# Altium integrated library Infineon_Power_IGBT.IntLib: 226 symbols (part 7 of 8)
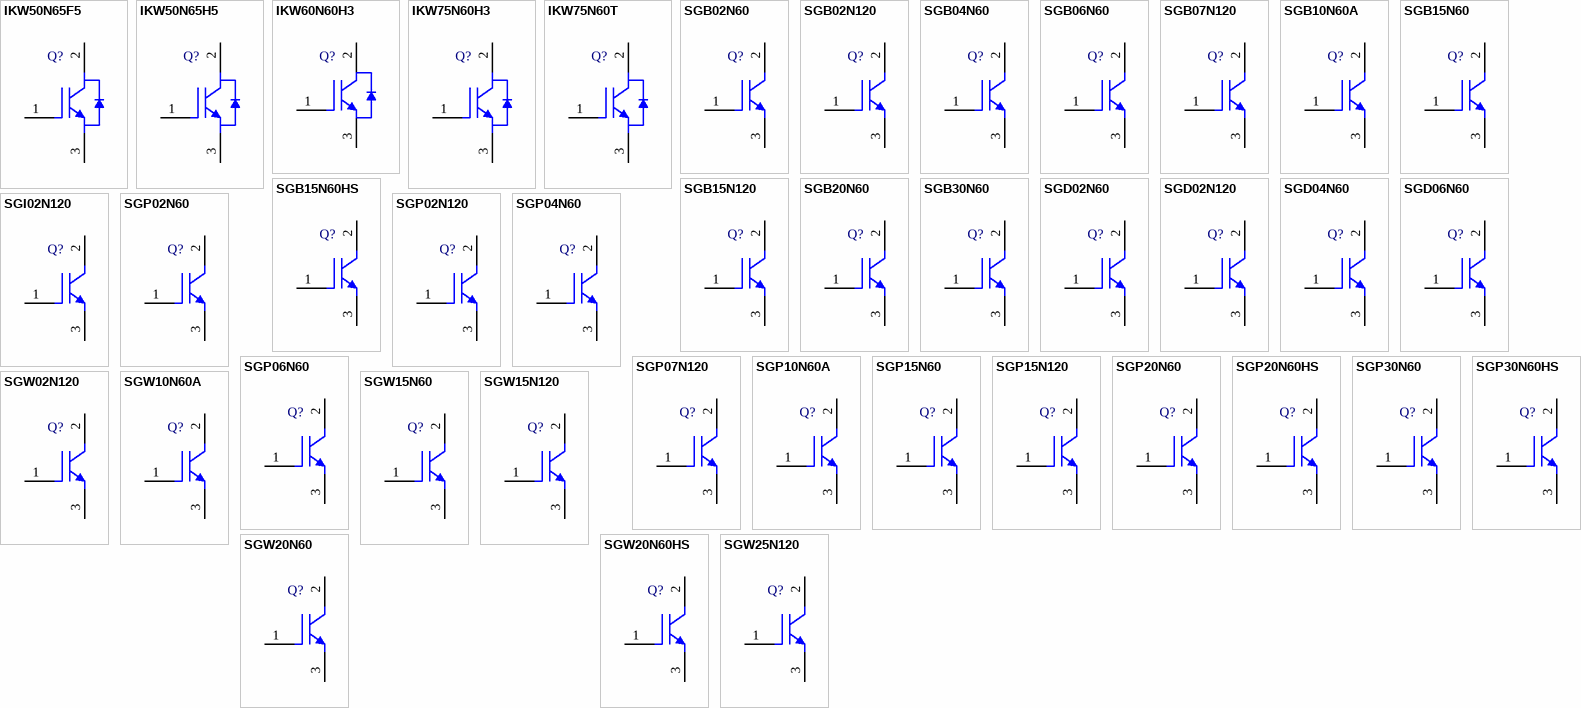
[diagram p11: symbols IKW50N65F5 to SGW25N120]

## SGP30N60HS
designator Q?
High Speed IGBT in NPT-Technology, PG-TO220-3-1, Tube, Green; Manufacturer: Infineon; PartNumber: SGP30N60HS; Green: TRUE; IC(max) @ 100 degC: 30 A; IC(max) @ 25 degC: 41 A; Switching Frequency: HighSpeed 30-100 kHz; VCE (max): 600 V; VCE(sat) (typ): 3.5 V; DatasheetVersion: Rev. 2.3; PackageVersion: Jul-12; PackageReference: PG-TO220-3-1; PackageDescription: 3-Pin Plastic (Green) Transistor Single Outline Package, 10 x 9.25 mm Body, 2.54 mm Pitch; Supplier 1: Mouser; Supplier Part Number 1: 726-SGP30N60HS; Supplier 2: Digi-Key; Supplier Part Number 2: SGP30N60HS-ND; Halogen-free: TRUE; Packing: Tube; Mounting Technology: Through Hole; ComponentLink1Description: Manufacturer URL; ComponentLink1URL: http://www.infineon.com/; ComponentLink2Description: Datasheet; ComponentLink2URL: http://www.infineon.com/dgdl/SGP_W30N60HS_Rev2_3G%5B1%5D.pdf?folderId=db3a3043156fd5730115f56849b61941&fileId=db3a304323b87bc20123b8f08ccf00c9; ComponentLink3Description: Package Specification; ComponentLink3URL: http://www.infineon.com/dgdl/BTS117_DS_14.pdf?folderId=db3a30431400ef68011421b54e2e0564&fileId=db3a30433a747525013abff8302d549c&location=en.Products.Automotive_ICs.Smart_High-_and_Low-Side_Switches.HITFET___TEMPFET__-_Smart_Low-Side_Switches.DATASHEET.BTS117_DS_14.pdf
footprint INF-PG-TO220-3-1 (FM, 3-Leads, Body 10x4.4mm, Pitch 2.54mm)
pins: 1 G, 2 C, 3 E

## SGW02N120
designator Q?
Fast IGBT in NPT-Technology, PG-TO-247-3-21, Tube; Manufacturer: Infineon; PartNumber: SGW02N120; Green: FALSE; IC(max) @ 100 degC: 2.8 A; IC(max) @ 25 degC: 6.2 A; Switching Frequency: Fast IGBT 10-40 kHz; VCE (max): 1,200 V; VCE(sat) (typ): 3.1 V; DatasheetVersion: Rev. 2.1; PackageVersion: Oct-07; PackageReference: PG-TO247-3-21; PackageDescription: 3-Pin Plastic (Green) Transistor Single Outline Package, 15.87 x 20.96 mm Body, 5.44 mm Pitch; Halogen-free: FALSE; Packing: Tube; Mounting Technology: Through Hole; ComponentLink1Description: Manufacturer URL; ComponentLink1URL: http://www.infineon.com/; ComponentLink2Description: Datasheet; ComponentLink2URL: http://www.infineon.com/dgdl/SGW02N120_Rev2G.pdf?folderId=db3a304412b407950112b408e8c90004&fileId=db3a304412b407950112b42831533d93; ComponentLink3Description: Package Specification; ComponentLink3URL: http://www.infineon.com/dgdl/DS_IK30N100T_1_1.pdf?folderId=db3a304412b407950112b408e8c90004&fileId=db3a304316f66ee80116f7b6e3920050&location=en.Products.IGBTs.IGBT_with_Anti-Parallel_Diode.TRENCHSTOP__IGBT_for_Hard_Switching.DATASHEET.DS_IK30N100T_1_1.pdf
footprint INF-PG-TO247-3-21 (FM, 3-Leads, Body 5.03x15.87mm, Pitch 5.44mm)
pins: 1 G, 2 C, 3 E

## SGW10N60A
designator Q?
Fast IGBT in NPT-Technology, PG-TO-247-3-44, Tube, Green; Manufacturer: Infineon; PartNumber: SGW10N60A; Green: TRUE; IC(max) @ 100 degC: 10.6 A; IC(max) @ 25 degC: 20 A; Switching Frequency: Fast IGBT 10-40 kHz; VCE (max): 600 V; VCE(sat) (typ): 2 V; DatasheetVersion: Rev. 2.5; PackageVersion: Rev. 05, 07/2010; PackageReference: PG-TO247-3-44_A; PackageDescription: 3-Pin Plastic (Green) Transistor Single Outline Package, Body 20.95 x 15.915 mm, Pitch 5.44 mm; Supplier 1: Mouser; Supplier Part Number 1: 726-SGW10N60A; Supplier 2: Digi-Key; Supplier Part Number 2: SGW10N60A-ND; Halogen-free: FALSE; Packing: Tube; Mounting Technology: Through Hole; ComponentLink1Description: Manufacturer URL; ComponentLink1URL: http://www.infineon.com/; ComponentLink2Description: Datasheet; ComponentLink2URL: http://www.infineon.com/dgdl/SGP_W10N60A_Rev2_5G.pdf?folderId=db3a304412b407950112b408e8c90004&fileId=db3a304412b407950112b42789993c5b; ComponentLink3Description: Package Specification; ComponentLink3URL: http://www.infineon.com/dgdl/IDW50E60_Rev+1.2.pdf?folderId=db3a304314dca38901151224afae0c96&fileId=db3a30433cd75ebf013cf1ddd0fb255a
footprint INF-PG-TO-247-3-44_A (FM, 3-Leads, Body 15.915x5.02mm, Pitch 5.44mm)
pins: 1 G, 2 C, 3 E

## SGW15N60
designator Q?
Fast IGBT in NPT-Technology, PG-TO-247-3, Tube, Green; Manufacturer: Infineon; PartNumber: SGW15N60; Green: TRUE; IC(max) @ 100 degC: 15 A; IC(max) @ 25 degC: 31 A; Switching Frequency: Fast IGBT 10-40 kHz; VCE (max): 600 V; VCE(sat) (typ): 2 V; DatasheetVersion: Rev. 2.3; PackageVersion: Rev. 03, 12/2007; PackageReference: PG-TO247-3; PackageDescription: 3-Pin Plastic (Green) Transistor Single Outline Package, 15.865 x 5.03 mm Body, 5.44 mm Pitch; Supplier 1: Mouser; Supplier Part Number 1: 726-SGW15N60; Supplier 2: Newark; Supplier Part Number 2: 47W3747; Supplier 3: Farnell; Supplier Part Number 3: 2212815; Supplier 4: Digi-Key; Supplier Part Number 4: SGW15N60-ND; Halogen-free: FALSE; Packing: Tube; Mounting Technology: Through Hole; ComponentLink1Description: Manufacturer URL; ComponentLink1URL: http://www.infineon.com/; ComponentLink2Description: Datasheet; ComponentLink2URL: http://www.infineon.com/dgdl/SGP_W15N60_Rev2_3G.pdf?folderId=db3a304412b407950112b408e8c90004&fileId=db3a304412b407950112b4278f2d3c66; ComponentLink3Description: Package Specification; ComponentLink3URL: http://www.infineon.com/dgdl/SKW30N60HS_Rev2_2G.pdf?folderId=db3a304412b407950112b408e8c90004&fileId=db3a304412b407950112b42862d43de6
footprint INF-PG-TO-247-3 (FM, 3-Leads, Body 15.865x5.03mm, Pitch 5.44mm)
pins: 1 G, 2 C, 3 E

## SGW15N120
designator Q?
Fast IGBT in NPT-Technology, PG-TO247-3-44, Tube, Green; Manufacturer: Infineon; PartNumber: SGW15N120; Green: TRUE; IC(max) @ 100 degC: 15 A; IC(max) @ 25 degC: 30 A; Switching Frequency: Fast IGBT 10-40 kHz; VCE (max): 1,200 V; VCE(sat) (typ): 3.1 V; DatasheetVersion: Rev. 2.6; PackageVersion: Rev. 05, 07/2010; PackageReference: PG-TO247-3-44_A; PackageDescription: 3-Pin Plastic (Green) Transistor Single Outline Package, Body 15.915 x 20.95 mm, Pitch 5.44 mm; Supplier 1: Mouser; Supplier Part Number 1: 726-SGW15N120; Supplier 2: Digi-Key; Supplier Part Number 2: SGW15N120-ND; Halogen-free: FALSE; Packing: Tube; Mounting Technology: Through Hole; ComponentLink1Description: Manufacturer URL; ComponentLink1URL: http://www.infineon.com/; ComponentLink2Description: Datasheet; ComponentLink2URL: http://www.infineon.com/dgdl/SGP_W15N120_Rev2_6.pdf?folderId=db3a304412b407950112b408e8c90004&fileId=db3a304412b407950112b427a19e3c82; ComponentLink3Description: Package Specification; ComponentLink3URL: http://www.infineon.com/dgdl/IDW10S120_Rev+2.pdf?folderId=db3a304314dca38901151224afae0c96&fileId=db3a304336724dc40136789691a04aa5
footprint INF-PG-TO247-3-44_A (FM, 3-Leads, Body 15.915x5.02mm, Pitch 5.44mm)
pins: 1 G, 2 C, 3 E

## SGW20N60
designator Q?
Fast IGBT in NPT-Technology, PG-TO-247-3-44, Tube, Green; Manufacturer: Infineon; PartNumber: SGW20N60; Green: TRUE; IC(max) @ 100 degC: 20 A; IC(max) @ 25 degC: 40 A; Switching Frequency: Fast IGBT 10-40 kHz; VCE (max): 600 V; VCE(sat) (typ): 2 V; DatasheetVersion: Rev. 2.4; PackageVersion: Rev. 05, 07/2010; PackageReference: PG-TO247-3-44_A; PackageDescription: 3-Pin Plastic (Green) Transistor Single Outline Package, Body 20.95 x 15.915 mm, Pitch 5.44 mm; Supplier 1: Mouser; Supplier Part Number 1: 726-SGW20N60; Supplier 2: Digi-Key; Supplier Part Number 2: SGW20N60-ND; Halogen-free: FALSE; Packing: Tube; Mounting Technology: Through Hole; ComponentLink1Description: Manufacturer URL; ComponentLink1URL: http://www.infineon.com/; ComponentLink2Description: Datasheet; ComponentLink2URL: http://www.infineon.com/dgdl/SGP_W20N60_Rev2_4G.pdf?folderId=db3a304412b407950112b408e8c90004&fileId=db3a304412b407950112b42791a53c6a; ComponentLink3Description: Package Specification; ComponentLink3URL: http://www.infineon.com/dgdl/IDW50E60_Rev+1.2.pdf?folderId=db3a304314dca38901151224afae0c96&fileId=db3a30433cd75ebf013cf1ddd0fb255a
footprint INF-PG-TO-247-3-44_A (FM, 3-Leads, Body 15.915x5.02mm, Pitch 5.44mm)
pins: 1 G, 2 C, 3 E

## SGW20N60HS
designator Q?
High Speed IGBT in NPT-Technology, PG-TO-247-3-44, Tube, Green; Manufacturer: Infineon; PartNumber: SGW20N60HS; Green: TRUE; IC(max) @ 100 degC: 20 A; IC(max) @ 25 degC: 36 A; Switching Frequency: HighSpeed 30-100 kHz; VCE (max): 600 V; VCE(sat) (typ): 2.8 V; DatasheetVersion: Rev. 2.5; PackageVersion: Rev. 05, 07/2010; PackageReference: PG-TO247-3-44_A; PackageDescription: 3-Pin Plastic (Green) Transistor Single Outline Package, Body 20.95 x 15.915 mm, Pitch 5.44 mm; Supplier 1: Mouser; Supplier Part Number 1: 726-SGW20N60HS; Supplier 2: Digi-Key; Supplier Part Number 2: SGW20N60HS-ND; Halogen-free: FALSE; Packing: Tube; Mounting Technology: Through Hole; ComponentLink1Description: Manufacturer URL; ComponentLink1URL: http://www.infineon.com/; ComponentLink2Description: Datasheet; ComponentLink2URL: http://www.infineon.com/dgdl/SGP_W20N60HS_Rev2_5G.pdf?folderId=db3a304412b407950112b408e8c90004&fileId=db3a304412b407950112b427b44d3ca4; ComponentLink3Description: Package Specification; ComponentLink3URL: http://www.infineon.com/dgdl/IDW50E60_Rev+1.2.pdf?folderId=db3a304314dca38901151224afae0c96&fileId=db3a30433cd75ebf013cf1ddd0fb255a
footprint INF-PG-TO-247-3-44_A (FM, 3-Leads, Body 15.915x5.02mm, Pitch 5.44mm)
pins: 1 G, 2 C, 3 E

## SGW25N120
designator Q?
Fast IGBT in NPT-Technology, PG-TO247-3-44, Tube, Green; Manufacturer: Infineon; PartNumber: SGW25N120; Green: TRUE; IC(max) @ 100 degC: 25 A; IC(max) @ 25 degC: 46 A; Switching Frequency: Fast IGBT 10-40 kHz; VCE (max): 1,200 V; VCE(sat) (typ): 3.1 V; DatasheetVersion: Rev. 2.5; PackageVersion: Rev. 05, 07/2010; PackageReference: PG-TO247-3-44_A; PackageDescription: 3-Pin Plastic (Green) Transistor Single Outline Package, Body 15.915 x 20.95 mm, Pitch 5.44 mm; Supplier 1: Mouser; Supplier Part Number 1: 726-SGW25N120; Supplier 2: Newark; Supplier Part Number 2: 47W3748; Supplier 3: Farnell; Supplier Part Number 3: 2212814; Supplier 4: Digi-Key; Supplier Part Number 4: SGW25N120-ND; Halogen-free: FALSE; Packing: Tube; Mounting Technology: Through Hole; ComponentLink1Description: Manufacturer URL; ComponentLink1URL: http://www.infineon.com/; ComponentLink2Description: Datasheet; ComponentLink2URL: http://www.infineon.com/dgdl/SGW25N120_Rev2_5G.pdf?folderId=db3a304412b407950112b408e8c90004&fileId=db3a304412b407950112b42837853d9e; ComponentLink3Description: Package Specification; ComponentLink3URL: http://www.infineon.com/dgdl/IDW10S120_Rev+2.pdf?folderId=db3a304314dca38901151224afae0c96&fileId=db3a304336724dc40136789691a04aa5
footprint INF-PG-TO247-3-44_A (FM, 3-Leads, Body 15.915x5.02mm, Pitch 5.44mm)
pins: 1 G, 2 C, 3 E

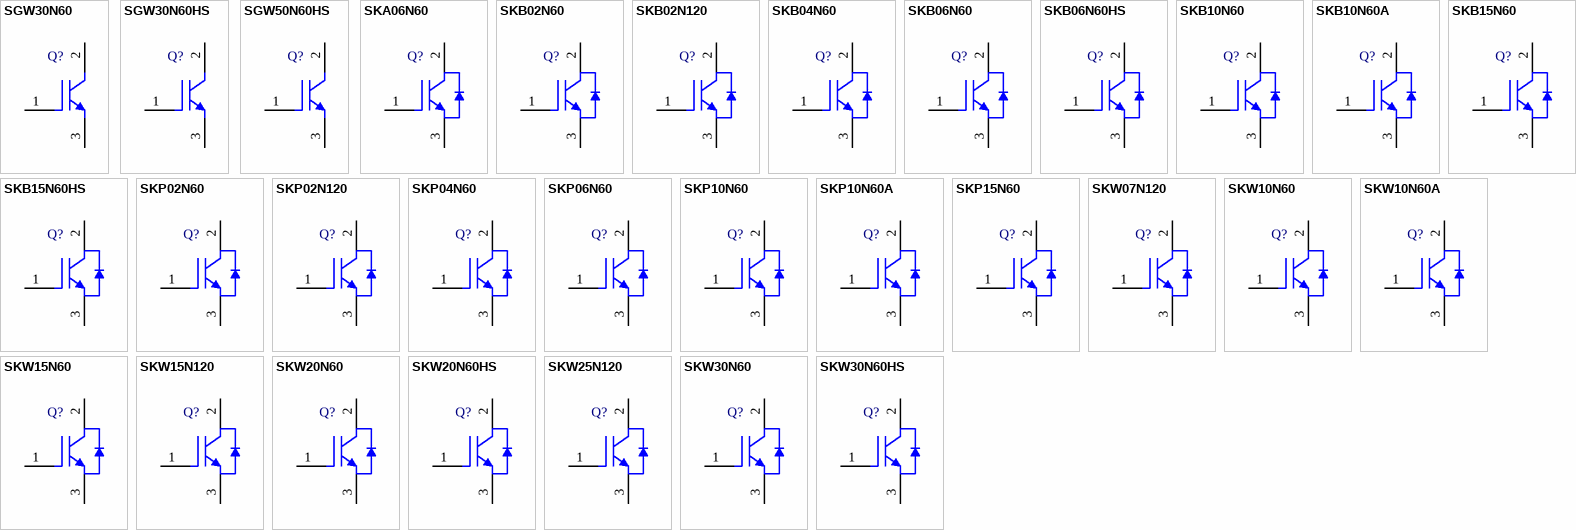
[diagram p5: symbols SGW30N60 to SKW30N60HS]

## SGW30N60
designator Q?
Fast IGBT in NPT-Technology, PG-TO-247-3-44, Tube, Green; Manufacturer: Infineon; PartNumber: SGW30N60; Green: TRUE; IC(max) @ 100 degC: 30 A; IC(max) @ 25 degC: 41 A; Switching Frequency: Fast IGBT 10-40 kHz; VCE (max): 600 V; VCE(sat) (typ): 2.1 V; DatasheetVersion: Rev. 2.5; PackageVersion: Rev. 05, 07/2010; PackageReference: PG-TO247-3-44_A; PackageDescription: 3-Pin Plastic (Green) Transistor Single Outline Package, Body 20.95 x 15.915 mm, Pitch 5.44 mm; Supplier 1: Mouser; Supplier Part Number 1: 726-SGW30N60; Supplier 2: Newark; Supplier Part Number 2: 24M7430; Supplier 3: Farnell; Supplier Part Number 3: 1056535; Supplier 4: Digi-Key; Supplier Part Number 4: SGW30N60-ND; Halogen-free: FALSE; Packing: Tube; Mounting Technology: Through Hole; ComponentLink1Description: Manufacturer URL; ComponentLink1URL: http://www.infineon.com/; ComponentLink2Description: Datasheet; ComponentLink2URL: http://www.infineon.com/dgdl/SGP_W30N60_Rev2_5G.pdf?folderId=db3a304412b407950112b408e8c90004&fileId=db3a304412b407950112b4282dff3d86; ComponentLink3Description: Package Specification; ComponentLink3URL: http://www.infineon.com/dgdl/IDW50E60_Rev+1.2.pdf?folderId=db3a304314dca38901151224afae0c96&fileId=db3a30433cd75ebf013cf1ddd0fb255a
footprint INF-PG-TO-247-3-44_A (FM, 3-Leads, Body 15.915x5.02mm, Pitch 5.44mm)
pins: 1 G, 2 C, 3 E

## SGW30N60HS
designator Q?
High Speed IGBT in NPT-Technology, PG-TO247-3-44, Tube, Green; Manufacturer: Infineon; PartNumber: SGW30N60HS; Green: TRUE; IC(max) @ 100 degC: 30 A; IC(max) @ 25 degC: 41 A; Switching Frequency: HighSpeed 30-100 kHz; VCE (max): 600 V; VCE(sat) (typ): 2.8 V; DatasheetVersion: Rev. 2.4; PackageVersion: Rev. 05, 07/2010; PackageReference: PG-TO247-3-44_A; PackageDescription: 3-Pin Plastic (Green) Transistor Single Outline Package, Body 15.915 x 20.95 mm, Pitch 5.44 mm; Supplier 1: Mouser; Supplier Part Number 1: 726-SGW30N60HS; Supplier 2: Newark; Supplier Part Number 2: 08N6634; Supplier 3: Farnell; Supplier Part Number 3: 1600271; Supplier 4: Digi-Key; Supplier Part Number 4: SGW30N60HS-ND; Halogen-free: FALSE; Packing: Tube; Mounting Technology: Through Hole; ComponentLink1Description: Manufacturer URL; ComponentLink1URL: http://www.infineon.com/; ComponentLink2Description: Datasheet; ComponentLink2URL: http://www.infineon.com/dgdl/SGP_W30N60HS_Rev2_4G.pdf?folderId=db3a304412b407950112b408e8c90004&fileId=db3a304412b407950112b427ac823c95; ComponentLink3Description: Package Specification; ComponentLink3URL: http://www.infineon.com/dgdl/IDW10S120_Rev+2.pdf?folderId=db3a304314dca38901151224afae0c96&fileId=db3a304336724dc40136789691a04aa5
footprint INF-PG-TO247-3-44_A (FM, 3-Leads, Body 15.915x5.02mm, Pitch 5.44mm)
pins: 1 G, 2 C, 3 E

## SGW50N60HS
designator Q?
High Speed IGBT in NPT-Technology, PG-TO247-3-44, Tube, Green; Manufacturer: Infineon; PartNumber: SGW50N60HS; Green: TRUE; IC(max) @ 100 degC: 50 A; IC(max) @ 25 degC: 100 A; Switching Frequency: HighSpeed 30-100 kHz; VCE (max): 600 V; VCE(sat) (typ): 2.8 V; DatasheetVersion: Rev. 2.3; PackageVersion: Rev. 05, 07/2010; PackageReference: PG-TO247-3-44_A; PackageDescription: 3-Pin Plastic (Green) Transistor Single Outline Package, Body 15.915 x 20.95 mm, Pitch 5.44 mm; Supplier 1: Mouser; Supplier Part Number 1: 726-SGW50N60HS; Supplier 2: Digi-Key; Supplier Part Number 2: SGW50N60HS-ND; Halogen-free: FALSE; Packing: Tube; Mounting Technology: Through Hole; ComponentLink1Description: Manufacturer URL; ComponentLink1URL: http://www.infineon.com/; ComponentLink2Description: Datasheet; ComponentLink2URL: http://www.infineon.com/dgdl/SGW50N60HS_Rev2_3G.pdf?folderId=db3a304412b407950112b408e8c90004&fileId=db3a304412b407950112b427b7d13cae; ComponentLink3Description: Package Specification; ComponentLink3URL: http://www.infineon.com/dgdl/IDW10S120_Rev+2.pdf?folderId=db3a304314dca38901151224afae0c96&fileId=db3a304336724dc40136789691a04aa5
footprint INF-PG-TO247-3-44_A (FM, 3-Leads, Body 15.915x5.02mm, Pitch 5.44mm)
pins: 1 G, 2 C, 3 E

## SKA06N60
designator Q?
Fast IGBT in NPT-Technology with Soft, Fast Recovery Anti-Parallel EmCon Diode, PG-TO-220-3-31, Tube, Green; Manufacturer: Infineon; PartNumber: SKA06N60; Green: TRUE; IC(max) @ 100 degC: 5 A; IC(max) @ 25 degC: 9 A; Switching Frequency: Fast IGBT 10-40 kHz; VCE (max): 600 V; VCE(sat) (typ): 2.3 V; DatasheetVersion: Rev. 2.3; PackageVersion: Jul-06; PackageReference: PG-TO-220-3-31; PackageDescription: 3-Pin Plastic (Green) Transistor Single Outline Package, 10.5 x 4.7 mm, 2.54 mm Pitch; Supplier 1: Mouser; Supplier Part Number 1: 726-SKA06N60; Supplier 2: Digi-Key; Supplier Part Number 2: SKA06N60-ND; Halogen-free: FALSE; Packing: Tube; Mounting Technology: Through Hole; ComponentLink1Description: Manufacturer URL; ComponentLink1URL: http://www.infineon.com/; ComponentLink2Description: Datasheet; ComponentLink2URL: http://www.infineon.com/dgdl/SKP_A06N60_Rev2_3G.pdf?folderId=db3a304412b407950112b408e8c90004&fileId=db3a304412b407950112b426b0df3a4b; ComponentLink3Description: Package Specification; ComponentLink3URL: http://www.infineon.com/dgdl/IKA03N120H2_Rev2_2G.pdf?folderId=db3a304412b407950112b408e8c90004&fileId=db3a304412b407950112b428518b3dcb
footprint INF-PG-TO-220-3-31 (FM, 3-Leads, Body 10.5x4.7mm, Pitch 2.54mm)
pins: 1 G, 2 C, 3 E

## SKB02N60
designator Q?
Fast IGBT in NPT-Technology with Soft, Fast Recovery Anti-Parallel EmCon Diode, PG-TO263-3-2, Reel, Green; Manufacturer: Infineon; PartNumber: SKB02N60; Green: TRUE; IC(max) @ 100 degC: 2.9 A; IC(max) @ 25 degC: 6 A; Switching Frequency: Fast IGBT 10-40 kHz; VCE (max): 600 V; VCE(sat) (typ): 2.2 V; DatasheetVersion: Rev. 2.2; PackageVersion: Rev. 01, 08/2007; PackageReference: PG-TO263-3-2; PackageDescription: 3-Pin Plastic (Green) Transistor Single Outline Package, 10.1 x 8.98 mm Body, 2.54 mm Pitch; Supplier 1: Mouser; Supplier Part Number 1: 726-SKB02N60; Supplier 2: Digi-Key; Supplier Part Number 2: SKB02N60-ND; Halogen-free: TRUE; Packing: Reel; Mounting Technology: Surface Mount; ComponentLink1Description: Manufacturer URL; ComponentLink1URL: http://www.infineon.com/; ComponentLink2Description: Datasheet; ComponentLink2URL: http://www.infineon.com/dgdl/SKB02N60_Rev2_2G.pdf?folderId=db3a304412b407950112b408e8c90004&fileId=db3a304412b407950112b426a6303a3b; ComponentLink3Description: Package Specification; ComponentLink3URL: http://www.infineon.com/dgdl/SPB80P06P+G_Rev+1.6_.pdf?folderId=db3a304412b407950112b408e8c90004&fileId=db3a304412b407950112b42add964408
footprint INF-PG-TO263-3-2_A_N (DPAK, 3-Leads, Body 10.1x8.98mm, Pitch 2.54mm, IPC Medium Density)
footprint INF-PG-TO263-3-2_A_L (DPAK, 3-Leads, Body 10.1x8.98mm, Pitch 2.54mm, IPC High Density)
footprint INF-PG-TO263-3-2_A_M (DPAK, 3-Leads, Body 10.1x8.98mm, Pitch 2.54mm, IPC Low Density)
pins: 1 G, 2 C, 3 E

## SKB02N120
designator Q?
Fast IGBT in NPT-Technology with Soft, Fast Recovery Anti-Parallel EmCon Diode, PG-TO263-3-2, Reel, Green; Manufacturer: Infineon; PartNumber: SKB02N120; Green: TRUE; IC(max) @ 100 degC: 2.8 A; IC(max) @ 25 degC: 6.2 A; Switching Frequency: Fast IGBT 10-40 kHz; VCE (max): 1,200 V; VCE(sat) (typ): 3.7 V; DatasheetVersion: Rev. 2.3; PackageVersion: Rev. 01, 08/2007; PackageReference: PG-TO263-3-2; PackageDescription: 3-Pin Plastic (Green) Transistor Single Outline Package, 10.1 x 8.98 mm Body, 2.54 mm Pitch; Supplier 1: Mouser; Supplier Part Number 1: 726-SKB02N120; Supplier 2: Digi-Key; Supplier Part Number 2: SKB02N120-ND; Halogen-free: TRUE; Packing: Reel; Mounting Technology: Surface Mount; ComponentLink1Description: Manufacturer URL; ComponentLink1URL: http://www.infineon.com/; ComponentLink2Description: Datasheet; ComponentLink2URL: http://www.infineon.com/dgdl/SKB02N120_Rev2_3G.pdf?folderId=db3a304412b407950112b408e8c90004&fileId=db3a304412b407950112b427f0fc3d22; ComponentLink3Description: Package Specification; ComponentLink3URL: http://www.infineon.com/dgdl/SPB80P06P+G_Rev+1.6_.pdf?folderId=db3a304412b407950112b408e8c90004&fileId=db3a304412b407950112b42add964408
footprint INF-PG-TO263-3-2_A_N (DPAK, 3-Leads, Body 10.1x8.98mm, Pitch 2.54mm, IPC Medium Density)
footprint INF-PG-TO263-3-2_A_L (DPAK, 3-Leads, Body 10.1x8.98mm, Pitch 2.54mm, IPC High Density)
footprint INF-PG-TO263-3-2_A_M (DPAK, 3-Leads, Body 10.1x8.98mm, Pitch 2.54mm, IPC Low Density)
pins: 1 G, 2 C, 3 E

## SKB04N60
designator Q?
Fast IGBT in NPT-Technology with Soft, Fast Recovery Anti-Parallel EmCon Diode, PG-TO263-3-2, Reel, Green; Manufacturer: Infineon; PartNumber: SKB04N60; Green: TRUE; IC(max) @ 100 degC: 4.9 A; IC(max) @ 25 degC: 9.4 A; Switching Frequency: Fast IGBT 10-40 kHz; VCE (max): 600 V; VCE(sat) (typ): 2.3 V; DatasheetVersion: Rev. 2.3; PackageVersion: Rev. 01, 08/2007; PackageReference: PG-TO263-3-2; PackageDescription: 3-Pin Plastic (Green) Transistor Single Outline Package, 10.1 x 8.98 mm Body, 2.54 mm Pitch; Supplier 1: Mouser; Supplier Part Number 1: 726-SKB04N60; Supplier 2: Digi-Key; Supplier Part Number 2: SKB04N60-ND; Halogen-free: TRUE; Packing: Reel; Mounting Technology: Surface Mount; ComponentLink1Description: Manufacturer URL; ComponentLink1URL: http://www.infineon.com/; ComponentLink2Description: Datasheet; ComponentLink2URL: http://www.infineon.com/dgdl/SKB04N60_Rev2_3G.pdf?folderId=db3a304412b407950112b408e8c90004&fileId=db3a304412b407950112b426ab9f3a43; ComponentLink3Description: Package Specification; ComponentLink3URL: http://www.infineon.com/dgdl/SPB80P06P+G_Rev+1.6_.pdf?folderId=db3a304412b407950112b408e8c90004&fileId=db3a304412b407950112b42add964408
footprint INF-PG-TO263-3-2_A_N (DPAK, 3-Leads, Body 10.1x8.98mm, Pitch 2.54mm, IPC Medium Density)
footprint INF-PG-TO263-3-2_A_L (DPAK, 3-Leads, Body 10.1x8.98mm, Pitch 2.54mm, IPC High Density)
footprint INF-PG-TO263-3-2_A_M (DPAK, 3-Leads, Body 10.1x8.98mm, Pitch 2.54mm, IPC Low Density)
pins: 1 G, 2 C, 3 E

## SKB06N60
designator Q?
Fast IGBT in NPT-Technology with Soft, Fast Recovery Anti-Parallel EmCon Diode, PG-TO263-3-2, Reel, Green; Manufacturer: Infineon; PartNumber: SKB06N60; Green: TRUE; IC(max) @ 100 degC: 6.9 A; IC(max) @ 25 degC: 12 A; Switching Frequency: Fast IGBT 10-40 kHz; VCE (max): 600 V; VCE(sat) (typ): 2.3 V; DatasheetVersion: Rev. 2.2; PackageVersion: Rev. 01, 08/2007; PackageReference: PG-TO263-3-2; PackageDescription: 3-Pin Plastic (Green) Transistor Single Outline Package, 10.1 x 8.98 mm Body, 2.54 mm Pitch; Supplier 1: Mouser; Supplier Part Number 1: 726-SKB06N60; Supplier 2: Digi-Key; Supplier Part Number 2: SKB06N60-ND; Halogen-free: TRUE; Packing: Reel; Mounting Technology: Surface Mount; ComponentLink1Description: Manufacturer URL; ComponentLink1URL: http://www.infineon.com/; ComponentLink2Description: Datasheet; ComponentLink2URL: http://www.infineon.com/dgdl/SKB06N60_Rev2_2G.pdf?folderId=db3a304412b407950112b408e8c90004&fileId=db3a304412b407950112b427ff693d36; ComponentLink3Description: Package Specification; ComponentLink3URL: http://www.infineon.com/dgdl/SPB80P06P+G_Rev+1.6_.pdf?folderId=db3a304412b407950112b408e8c90004&fileId=db3a304412b407950112b42add964408
footprint INF-PG-TO263-3-2_A_N (DPAK, 3-Leads, Body 10.1x8.98mm, Pitch 2.54mm, IPC Medium Density)
footprint INF-PG-TO263-3-2_A_L (DPAK, 3-Leads, Body 10.1x8.98mm, Pitch 2.54mm, IPC High Density)
footprint INF-PG-TO263-3-2_A_M (DPAK, 3-Leads, Body 10.1x8.98mm, Pitch 2.54mm, IPC Low Density)
pins: 1 G, 2 C, 3 E

## SKB06N60HS
designator Q?
High Speed IGBT in NPT-Technology, PG-TO263-3-2, Reel, Green; Manufacturer: Infineon; PartNumber: SKB06N60HS; Green: TRUE; IC(max) @ 100 degC: 6 A; IC(max) @ 25 degC: 12 A; Switching Frequency: HighSpeed 30-100 kHz; VCE (max): 600 V; VCE(sat) (typ): 3.5 V; DatasheetVersion: Rev. 2.3; PackageVersion: Rev. 01, 08/2007; PackageReference: PG-TO263-3-2; PackageDescription: 3-Pin Plastic (Green) Transistor Single Outline Package, 10.1 x 8.98 mm Body, 2.54 mm Pitch; Supplier 1: Mouser; Supplier Part Number 1: 726-SKB06N60HS; Supplier 2: Digi-Key; Supplier Part Number 2: SKB06N60HS-ND; Halogen-free: TRUE; Packing: Reel; Mounting Technology: Surface Mount; ComponentLink1Description: Manufacturer URL; ComponentLink1URL: http://www.infineon.com/; ComponentLink2Description: Datasheet; ComponentLink2URL: http://www.infineon.com/dgdl/SKB06N60HS_Rev2_3G.pdf?folderId=db3a304412b407950112b408e8c90004&fileId=db3a304412b407950112b4285a013dda; ComponentLink3Description: Package Specification; ComponentLink3URL: http://www.infineon.com/dgdl/SPB80P06P+G_Rev+1.6_.pdf?folderId=db3a304412b407950112b408e8c90004&fileId=db3a304412b407950112b42add964408
footprint INF-PG-TO263-3-2_A_N (DPAK, 3-Leads, Body 10.1x8.98mm, Pitch 2.54mm, IPC Medium Density)
footprint INF-PG-TO263-3-2_A_L (DPAK, 3-Leads, Body 10.1x8.98mm, Pitch 2.54mm, IPC High Density)
footprint INF-PG-TO263-3-2_A_M (DPAK, 3-Leads, Body 10.1x8.98mm, Pitch 2.54mm, IPC Low Density)
pins: 1 G, 2 C, 3 E

## SKB10N60
designator Q?
Fast S-IGBT in NPT-Technology with Soft, Fast Recovery Anti-Parallel EmCon Diode, PG-TO-263AB, Reel; Manufacturer: Infineon; PartNumber: SKB10N60; Green: FALSE; IC(max) @ 100 degC: 10.9 A; IC(max) @ 25 degC: 21 A; Switching Frequency: Fast IGBT 10-40 kHz; VCE (max): 600 V; VCE(sat) (typ): 2 V; DatasheetVersion: Rev. 2.0; PackageVersion: Sep-08; PackageReference: PG-TO-263AB; PackageDescription: 3-Pin Plastic (Green) Transistor Single Outline Package, 10 x 9.25 mm Body, 2.54 mm Pitch; Supplier 1: Mouser; Supplier Part Number 1: 726-SKB10N60; Halogen-free: FALSE; Packing: Reel; Mounting Technology: Surface Mount; ComponentLink1Description: Manufacturer URL; ComponentLink1URL: http://www.infineon.com/; ComponentLink2Description: Datasheet; ComponentLink2URL: http://www.infineon.com/dgdl/SKP_B_W10N60_Rev_2_0.pdf?folderId=db3a3043156fd5730115f56849b61941&fileId=db3a30433afc7e3e013b4148150b7840; ComponentLink3Description: Package Specification; ComponentLink3URL: http://www.infineon.com/dgdl/SKP_B_W10N60_Rev_2_0.pdf?folderId=db3a3043156fd5730115f56849b61941&fileId=db3a30433afc7e3e013b4148150b7840
footprint INF-PG-TO-263AB_V (DPAK, 3-Leads, Pitch 2.54mm)
pins: 1 G, 2 C, 3 E

## SKB10N60A
designator Q?
Fast IGBT in NPT-Technology with Soft, Fast Recovery Anti-Parallel EmCon Diode, PG-TO263-3-2, Reel, Green; Manufacturer: Infineon; PartNumber: SKB10N60A; Green: TRUE; IC(max) @ 100 degC: 10.6 A; IC(max) @ 25 degC: 20 A; Switching Frequency: Fast IGBT 10-40 kHz; VCE (max): 600 V; VCE(sat) (typ): 2.3 V; DatasheetVersion: Rev. 2.2; PackageVersion: Rev. 01, 08/2007; PackageReference: PG-TO263-3-2; PackageDescription: 3-Pin Plastic (Green) Transistor Single Outline Package, 10.1 x 8.98 mm Body, 2.54 mm Pitch; Supplier 1: Mouser; Supplier Part Number 1: 726-SKB10N60A; Supplier 2: Digi-Key; Supplier Part Number 2: SKB10N60A-ND; Halogen-free: TRUE; Packing: Reel; Mounting Technology: Surface Mount; ComponentLink1Description: Manufacturer URL; ComponentLink1URL: http://www.infineon.com/; ComponentLink2Description: Datasheet; ComponentLink2URL: http://www.infineon.com/dgdl/SKB10N60A_Rev2_2G.pdf?folderId=db3a304412b407950112b408e8c90004&fileId=db3a304412b407950112b427df013d04; ComponentLink3Description: Package Specification; ComponentLink3URL: http://www.infineon.com/dgdl/SPB80P06P+G_Rev+1.6_.pdf?folderId=db3a304412b407950112b408e8c90004&fileId=db3a304412b407950112b42add964408
footprint INF-PG-TO263-3-2_A_N (DPAK, 3-Leads, Body 10.1x8.98mm, Pitch 2.54mm, IPC Medium Density)
footprint INF-PG-TO263-3-2_A_L (DPAK, 3-Leads, Body 10.1x8.98mm, Pitch 2.54mm, IPC High Density)
footprint INF-PG-TO263-3-2_A_M (DPAK, 3-Leads, Body 10.1x8.98mm, Pitch 2.54mm, IPC Low Density)
pins: 1 G, 2 C, 3 E

## SKB15N60
designator Q?
Fast IGBT in NPT-Technology with Soft, Fast Recovery Anti-Parallel EmCon Diode, PG-TO263-3-2, Reel, Green; Manufacturer: Infineon; PartNumber: SKB15N60; Green: TRUE; IC(max) @ 100 degC: 15 A; IC(max) @ 25 degC: 31 A; Switching Frequency: Fast IGBT 10-40 kHz; VCE (max): 600 V; VCE(sat) (typ): 2.3 V; DatasheetVersion: Rev. 2.2; PackageVersion: Rev. 01, 08/2007; PackageReference: PG-TO263-3-2; PackageDescription: 3-Pin Plastic (Green) Transistor Single Outline Package, 10.1 x 8.98 mm Body, 2.54 mm Pitch; Supplier 1: Mouser; Supplier Part Number 1: 726-SKB15N60; Supplier 2: Digi-Key; Supplier Part Number 2: SKB15N60-ND; Halogen-free: TRUE; Packing: Reel; Mounting Technology: Surface Mount; ComponentLink1Description: Manufacturer URL; ComponentLink1URL: http://www.infineon.com/; ComponentLink2Description: Datasheet; ComponentLink2URL: http://www.infineon.com/dgdl/SKB15N60_Rev2_2G.pdf?folderId=db3a304412b407950112b408e8c90004&fileId=db3a304412b407950112b427e5073d0f; ComponentLink3Description: Package Specification; ComponentLink3URL: http://www.infineon.com/dgdl/SPB80P06P+G_Rev+1.6_.pdf?folderId=db3a304412b407950112b408e8c90004&fileId=db3a304412b407950112b42add964408
footprint INF-PG-TO263-3-2_A_N (DPAK, 3-Leads, Body 10.1x8.98mm, Pitch 2.54mm, IPC Medium Density)
footprint INF-PG-TO263-3-2_A_L (DPAK, 3-Leads, Body 10.1x8.98mm, Pitch 2.54mm, IPC High Density)
footprint INF-PG-TO263-3-2_A_M (DPAK, 3-Leads, Body 10.1x8.98mm, Pitch 2.54mm, IPC Low Density)
pins: 1 G, 2 C, 3 E

## SKB15N60HS
designator Q?
High Speed IGBT in NPT-Technology, PG-TO263-3-2, Reel, Green; Manufacturer: Infineon; PartNumber: SKB15N60HS; Green: TRUE; IC(max) @ 100 degC: 15 A; IC(max) @ 25 degC: 27 A; Switching Frequency: Fast IGBT 10-40 kHz; VCE (max): 600 V; VCE(sat) (typ): 3.5 V; DatasheetVersion: Rev. 2.3; PackageVersion: Rev. 01, 08/2007; PackageReference: PG-TO263-3-2; PackageDescription: 3-Pin Plastic (Green) Transistor Single Outline Package, 10.1 x 8.98 mm Body, 2.54 mm Pitch; Supplier 1: Mouser; Supplier Part Number 1: 726-SKB15N60HS; Supplier 2: Digi-Key; Supplier Part Number 2: SKB15N60HS-ND; Halogen-free: TRUE; Packing: Reel; Mounting Technology: Surface Mount; ComponentLink1Description: Manufacturer URL; ComponentLink1URL: http://www.infineon.com/; ComponentLink2Description: Datasheet; ComponentLink2URL: http://www.infineon.com/dgdl/SKB15N60HS_Rev2_3G.pdf?folderId=db3a304412b407950112b408e8c90004&fileId=db3a304412b407950112b4285ce33dde; ComponentLink3Description: Package Specification; ComponentLink3URL: http://www.infineon.com/dgdl/SPB80P06P+G_Rev+1.6_.pdf?folderId=db3a304412b407950112b408e8c90004&fileId=db3a304412b407950112b42add964408
footprint INF-PG-TO263-3-2_A_N (DPAK, 3-Leads, Body 10.1x8.98mm, Pitch 2.54mm, IPC Medium Density)
footprint INF-PG-TO263-3-2_A_L (DPAK, 3-Leads, Body 10.1x8.98mm, Pitch 2.54mm, IPC High Density)
footprint INF-PG-TO263-3-2_A_M (DPAK, 3-Leads, Body 10.1x8.98mm, Pitch 2.54mm, IPC Low Density)
pins: 1 G, 2 C, 3 E

## SKP02N60
designator Q?
Fast IGBT in NPT-Technology with Soft, Fast Recovery Anti-Parallel EmCon Diode, PG-TO220-3-1, Tube, Green; Manufacturer: Infineon; PartNumber: SKP02N60; Green: TRUE; IC(max) @ 100 degC: 2.9 A; IC(max) @ 25 degC: 6 A; Switching Frequency: Fast IGBT 10-40 kHz; VCE (max): 600 V; VCE(sat) (typ): 2.2 V; DatasheetVersion: Rev. 2.2; PackageVersion: Jul-12; PackageReference: PG-TO220-3-1; PackageDescription: 3-Pin Plastic (Green) Transistor Single Outline Package, 10 x 9.25 mm Body, 2.54 mm Pitch; Supplier 1: Mouser; Supplier Part Number 1: 726-SKP02N60; Supplier 2: Digi-Key; Supplier Part Number 2: SKP02N60-ND; Halogen-free: TRUE; Packing: Tube; Mounting Technology: Through Hole; ComponentLink1Description: Manufacturer URL; ComponentLink1URL: http://www.infineon.com/; ComponentLink2Description: Datasheet; ComponentLink2URL: http://www.infineon.com/dgdl/SKP02N60_Rev2_2G%5B1%5D.pdf?folderId=db3a3043156fd5730115f56849b61941&fileId=db3a304323b87bc20123bd282ebf35d6; ComponentLink3Description: Package Specification; ComponentLink3URL: http://www.infineon.com/dgdl/BTS117_DS_14.pdf?folderId=db3a30431400ef68011421b54e2e0564&fileId=db3a30433a747525013abff8302d549c&location=en.Products.Automotive_ICs.Smart_High-_and_Low-Side_Switches.HITFET___TEMPFET__-_Smart_Low-Side_Switches.DATASHEET.BTS117_DS_14.pdf
footprint INF-PG-TO220-3-1 (FM, 3-Leads, Body 10x4.4mm, Pitch 2.54mm)
pins: 1 G, 2 C, 3 E

## SKP02N120
designator Q?
Fast IGBT in NPT-Technology with Soft, Fast Recovery Anti-Parallel EmCon Diode, PG-TO220-3-1, Tube, Green; Manufacturer: Infineon; PartNumber: SKP02N120; Green: TRUE; IC(max) @ 100 degC: 2.8 A; IC(max) @ 25 degC: 6.2 A; Switching Frequency: Fast IGBT 10-40 kHz; VCE (max): 1,200 V; VCE(sat) (typ): 3.7 V; DatasheetVersion: Rev. 2.2; PackageVersion: Jul-12; PackageReference: PG-TO220-3-1; PackageDescription: 3-Pin Plastic (Green) Transistor Single Outline Package, 10 x 9.25 mm Body, 2.54 mm Pitch; Supplier 1: Mouser; Supplier Part Number 1: 726-SKP02N120; Supplier 2: Digi-Key; Supplier Part Number 2: SKP02N120-ND; Halogen-free: TRUE; Packing: Tube; Mounting Technology: Through Hole; ComponentLink1Description: Manufacturer URL; ComponentLink1URL: http://www.infineon.com/; ComponentLink2Description: Datasheet; ComponentLink2URL: http://www.infineon.com/dgdl/SKP02N120_Rev2G_2%5B1%5D.pdf?folderId=db3a3043156fd5730115f56849b61941&fileId=db3a304323b87bc20123bda4717636a5; ComponentLink3Description: Package Specification; ComponentLink3URL: http://www.infineon.com/dgdl/BTS117_DS_14.pdf?folderId=db3a30431400ef68011421b54e2e0564&fileId=db3a30433a747525013abff8302d549c&location=en.Products.Automotive_ICs.Smart_High-_and_Low-Side_Switches.HITFET___TEMPFET__-_Smart_Low-Side_Switches.DATASHEET.BTS117_DS_14.pdf
footprint INF-PG-TO220-3-1 (FM, 3-Leads, Body 10x4.4mm, Pitch 2.54mm)
pins: 1 G, 2 C, 3 E

## SKP04N60
designator Q?
Fast IGBT in NPT-Technology with Soft, Fast Recovery Anti-Parallel EmCon Diode, PG-TO220-3-1, Tube, Green; Manufacturer: Infineon; PartNumber: SKP04N60; Green: TRUE; IC(max) @ 100 degC: 4.9 A; IC(max) @ 25 degC: 9.4 A; Switching Frequency: Fast IGBT 10-40 kHz; VCE (max): 600 V; VCE(sat) (typ): 2.3 V; DatasheetVersion: Rev. 2.2; PackageVersion: Jul-12; PackageReference: PG-TO220-3-1; PackageDescription: 3-Pin Plastic (Green) Transistor Single Outline Package, 10 x 9.25 mm Body, 2.54 mm Pitch; Supplier 1: Mouser; Supplier Part Number 1: 726-SKP04N60; Supplier 2: Digi-Key; Supplier Part Number 2: SKP04N60-ND; Halogen-free: TRUE; Packing: Tube; Mounting Technology: Through Hole; ComponentLink1Description: Manufacturer URL; ComponentLink1URL: http://www.infineon.com/; ComponentLink2Description: Datasheet; ComponentLink2URL: http://www.infineon.com/dgdl/SKP04N60_Rev2_2G%5B1%5D.pdf?folderId=db3a3043156fd5730115f56849b61941&fileId=db3a304323b87bc20123bd39d8ac35f4; ComponentLink3Description: Package Specification; ComponentLink3URL: http://www.infineon.com/dgdl/BTS117_DS_14.pdf?folderId=db3a30431400ef68011421b54e2e0564&fileId=db3a30433a747525013abff8302d549c&location=en.Products.Automotive_ICs.Smart_High-_and_Low-Side_Switches.HITFET___TEMPFET__-_Smart_Low-Side_Switches.DATASHEET.BTS117_DS_14.pdf
footprint INF-PG-TO220-3-1 (FM, 3-Leads, Body 10x4.4mm, Pitch 2.54mm)
pins: 1 G, 2 C, 3 E

## SKP06N60
designator Q?
Fast IGBT in NPT-Technology with Soft, Fast Recovery Anti-Parallel EmCon Diode, PG-TO220-3-1, Tube, Green; Manufacturer: Infineon; PartNumber: SKP06N60; Green: TRUE; IC(max) @ 100 degC: 6.9 A; IC(max) @ 25 degC: 12 A; Switching Frequency: Fast IGBT 10-40 kHz; VCE (max): 600 V; VCE(sat) (typ): 2.3 V; DatasheetVersion: Rev. 2.3; PackageVersion: Jul-12; PackageReference: PG-TO220-3-1; PackageDescription: 3-Pin Plastic (Green) Transistor Single Outline Package, 10 x 9.25 mm Body, 2.54 mm Pitch; Supplier 1: Mouser; Supplier Part Number 1: 726-SKP06N60; Supplier 2: Digi-Key; Supplier Part Number 2: SKP06N60-ND; Halogen-free: TRUE; Packing: Tube; Mounting Technology: Through Hole; ComponentLink1Description: Manufacturer URL; ComponentLink1URL: http://www.infineon.com/; ComponentLink2Description: Datasheet; ComponentLink2URL: http://www.infineon.com/dgdl/SKP_A06N60_Rev2_3G%5B1%5D.pdf?folderId=db3a3043156fd5730115f56849b61941&fileId=db3a304323b87bc20123bd431003360e; ComponentLink3Description: Package Specification; ComponentLink3URL: http://www.infineon.com/dgdl/BTS117_DS_14.pdf?folderId=db3a30431400ef68011421b54e2e0564&fileId=db3a30433a747525013abff8302d549c&location=en.Products.Automotive_ICs.Smart_High-_and_Low-Side_Switches.HITFET___TEMPFET__-_Smart_Low-Side_Switches.DATASHEET.BTS117_DS_14.pdf
footprint INF-PG-TO220-3-1 (FM, 3-Leads, Body 10x4.4mm, Pitch 2.54mm)
pins: 1 G, 2 C, 3 E

## SKP10N60
designator Q?
Fast S-IGBT in NPT-Technology with Soft, Fast Recovery Anti-Parallel EmCon Diode, PG-TO-220AB, Tube, Green; Manufacturer: Infineon; PartNumber: SKP10N60; Green: TRUE; IC(max) @ 100 degC: 10.9 A; IC(max) @ 25 degC: 21 A; Switching Frequency: Fast IGBT 10-40 kHz; VCE (max): 600 V; VCE(sat) (typ): 2.2 V; DatasheetVersion: Rev. 2.0; PackageVersion: Feb-04; PackageReference: PG-TO-220AB; PackageDescription: 3-Pin Plastic (Green) Transistor Single Outline Package, 9.9 x 9.2 mm Body, 2.54 mm Pitch; Halogen-free: FALSE; Packing: Tube; Mounting Technology: Through Hole; ComponentLink1Description: Manufacturer URL; ComponentLink1URL: http://www.infineon.com/; ComponentLink2Description: Datasheet; ComponentLink2URL: http://www.infineon.com/dgdl/SKP_B_W10N60_Rev_2_0.pdf?folderId=db3a3043156fd5730115f56849b61941&fileId=db3a30433afc7e3e013b4148150b7840; ComponentLink3Description: Package Specification; ComponentLink3URL: http://www.infineon.com/dgdl/bts110.pdf?folderId=db3a304412b407950112b43583c16310&fileId=db3a304412b407950112b43584326311&sId=db3a30443e3c704d013e4eb6657a2604
footprint INF-PG-TO-220AB (FM, 3-Leads, Body 9.9x4.4mm, Pitch 2.54mm)
pins: 1 G, 2 C, 3 E

## SKP10N60A
designator Q?
Fast IGBT in NPT-Technology with Soft, Fast Recovery Anti-Parallel EmCon Diode, PG-TO220-3-1, Tube, Green; Manufacturer: Infineon; PartNumber: SKP10N60A; Green: TRUE; IC(max) @ 100 degC: 10.6 A; IC(max) @ 25 degC: 20 A; Switching Frequency: Fast IGBT 10-40 kHz; VCE (max): 600 V; VCE(sat) (typ): 2.3 V; DatasheetVersion: Rev. 2.3; PackageVersion: Jul-12; PackageReference: PG-TO220-3-1; PackageDescription: 3-Pin Plastic (Green) Transistor Single Outline Package, 10 x 9.25 mm Body, 2.54 mm Pitch; Supplier 1: Mouser; Supplier Part Number 1: 726-SKP10N60A; Supplier 2: Digi-Key; Supplier Part Number 2: SKP10N60A-ND; Halogen-free: TRUE; Packing: Tube; Mounting Technology: Through Hole; ComponentLink1Description: Manufacturer URL; ComponentLink1URL: http://www.infineon.com/; ComponentLink2Description: Datasheet; ComponentLink2URL: http://www.infineon.com/dgdl/SKP_W10N60A_Rev2_3G_%5B1%5D.pdf?folderId=db3a3043156fd5730115f56849b61941&fileId=db3a304323b87bc20123bd4cb14e3627; ComponentLink3Description: Package Specification; ComponentLink3URL: http://www.infineon.com/dgdl/BTS117_DS_14.pdf?folderId=db3a30431400ef68011421b54e2e0564&fileId=db3a30433a747525013abff8302d549c&location=en.Products.Automotive_ICs.Smart_High-_and_Low-Side_Switches.HITFET___TEMPFET__-_Smart_Low-Side_Switches.DATASHEET.BTS117_DS_14.pdf
footprint INF-PG-TO220-3-1 (FM, 3-Leads, Body 10x4.4mm, Pitch 2.54mm)
pins: 1 G, 2 C, 3 E

## SKP15N60
designator Q?
Fast IGBT in NPT-Technology with Soft, Fast Recovery Anti-Parallel EmCon Diode, PG-TO220-3-1, Tube, Green; Manufacturer: Infineon; PartNumber: SKP15N60; Green: TRUE; IC(max) @ 100 degC: 15 A; IC(max) @ 25 degC: 31 A; Switching Frequency: Fast IGBT 10-40 kHz; VCE (max): 600 V; VCE(sat) (typ): 2.3 V; DatasheetVersion: Rev. 2.3; PackageVersion: Jul-12; PackageReference: PG-TO220-3-1; PackageDescription: 3-Pin Plastic (Green) Transistor Single Outline Package, 10 x 9.25 mm Body, 2.54 mm Pitch; Supplier 1: Mouser; Supplier Part Number 1: 726-SKP15N60; Supplier 2: Digi-Key; Supplier Part Number 2: SKP15N60-ND; Halogen-free: TRUE; Packing: Tube; Mounting Technology: Through Hole; ComponentLink1Description: Manufacturer URL; ComponentLink1URL: http://www.infineon.com/; ComponentLink2Description: Datasheet; ComponentLink2URL: http://www.infineon.com/dgdl/SKP_W15N60_Rev2_3G%5B1%5D.pdf?folderId=db3a3043156fd5730115f56849b61941&fileId=db3a304323b87bc20123bd5f38863640; ComponentLink3Description: Package Specification; ComponentLink3URL: http://www.infineon.com/dgdl/BTS117_DS_14.pdf?folderId=db3a30431400ef68011421b54e2e0564&fileId=db3a30433a747525013abff8302d549c&location=en.Products.Automotive_ICs.Smart_High-_and_Low-Side_Switches.HITFET___TEMPFET__-_Smart_Low-Side_Switches.DATASHEET.BTS117_DS_14.pdf
footprint INF-PG-TO220-3-1 (FM, 3-Leads, Body 10x4.4mm, Pitch 2.54mm)
pins: 1 G, 2 C, 3 E

## SKW07N120
designator Q?
Fast IGBT in NPT-Technology with Soft, Fast Recovery Anti-Parallel EmCon Diode, PG-TO-247-3, Tube, Green; Manufacturer: Infineon; PartNumber: SKW07N120; Green: TRUE; IC(max) @ 100 degC: 7.9 A; IC(max) @ 25 degC: 16.5 A; Switching Frequency: Fast IGBT 10-40 kHz; VCE (max): 1,200 V; VCE(sat) (typ): 3.7 V; DatasheetVersion: Rev. 2.2; PackageVersion: Rev. 03, 12/2007; PackageReference: PG-TO247-3; PackageDescription: 3-Pin Plastic (Green) Transistor Single Outline Package, 15.865 x 5.03 mm Body, 5.44 mm Pitch; Supplier 1: Mouser; Supplier Part Number 1: 726-SKW07N120; Supplier 2: Newark; Supplier Part Number 2: 47W3749; Supplier 3: Farnell; Supplier Part Number 3: 2212817; Supplier 4: Digi-Key; Supplier Part Number 4: SKW07N120-ND; Halogen-free: FALSE; Packing: Tube; Mounting Technology: Through Hole; ComponentLink1Description: Manufacturer URL; ComponentLink1URL: http://www.infineon.com/; ComponentLink2Description: Datasheet; ComponentLink2URL: http://www.infineon.com/dgdl/SKW07N120_Rev2_2G.pdf?folderId=db3a304412b407950112b408e8c90004&fileId=db3a304412b407950112b427f6983d2a; ComponentLink3Description: Package Specification; ComponentLink3URL: http://www.infineon.com/dgdl/SKW30N60HS_Rev2_2G.pdf?folderId=db3a304412b407950112b408e8c90004&fileId=db3a304412b407950112b42862d43de6
footprint INF-PG-TO-247-3 (FM, 3-Leads, Body 15.865x5.03mm, Pitch 5.44mm)
pins: 1 G, 2 C, 3 E

## SKW10N60
designator Q?
Fast S-IGBT in NPT-Technology with Soft, Fast Recovery Anti-Parallel EmCon Diode, PG-TO-247-3, Tube, Green; Manufacturer: Infineon; PartNumber: SKW10N60; Green: TRUE; IC(max) @ 100 degC: 10.9 A; IC(max) @ 25 degC: 21 A; Switching Frequency: Fast IGBT 10-40 kHz; VCE (max): 600 V; VCE(sat) (typ): 2 V; DatasheetVersion: Rev. 2.0; PackageVersion: Rev. 03, 12/2007; PackageReference: PG-TO247-3; PackageDescription: 3-Pin Plastic (Green) Transistor Single Outline Package, 15.865 x 5.03 mm Body, 5.44 mm Pitch; Supplier 1: Mouser; Supplier Part Number 1: 726-SKW10N60; Halogen-free: FALSE; Packing: Tube; Mounting Technology: Through Hole; ComponentLink1Description: Manufacturer URL; ComponentLink1URL: http://www.infineon.com/; ComponentLink2Description: Datasheet; ComponentLink2URL: http://www.infineon.com/dgdl/SKP_B_W10N60_Rev_2_0.pdf?folderId=db3a3043156fd5730115f56849b61941&fileId=db3a30433afc7e3e013b4148150b7840; ComponentLink3Description: Package Specification; ComponentLink3URL: http://www.infineon.com/dgdl/SKW30N60HS_Rev2_2G.pdf?folderId=db3a304412b407950112b408e8c90004&fileId=db3a304412b407950112b42862d43de6
footprint INF-PG-TO-247-3 (FM, 3-Leads, Body 15.865x5.03mm, Pitch 5.44mm)
pins: 1 G, 2 C, 3 E

## SKW10N60A
designator Q?
Fast IGBT in NPT-Technology with Soft, Fast Recovery Anti-Parallel EmCon Diode, PG-TO-247-3, Tube, Green; Manufacturer: Infineon; PartNumber: SKW10N60A; Green: TRUE; IC(max) @ 100 degC: 10.6 A; IC(max) @ 25 degC: 20 A; Switching Frequency: Fast IGBT 10-40 kHz; VCE (max): 600 V; VCE(sat) (typ): 2 V; DatasheetVersion: Rev. 2.3; PackageVersion: Rev. 03, 12/2007; PackageReference: PG-TO247-3; PackageDescription: 3-Pin Plastic (Green) Transistor Single Outline Package, 15.865 x 5.03 mm Body, 5.44 mm Pitch; Supplier 1: Mouser; Supplier Part Number 1: 726-SKW10N60A; Halogen-free: FALSE; Packing: Tube; Mounting Technology: Through Hole; ComponentLink1Description: Manufacturer URL; ComponentLink1URL: http://www.infineon.com/; ComponentLink2Description: Datasheet; ComponentLink2URL: http://www.infineon.com/dgdl/SKP_W10N60A_Rev2_3G_.pdf?folderId=db3a304412b407950112b408e8c90004&fileId=db3a304412b407950112b427e1d33d08; ComponentLink3Description: Package Specification; ComponentLink3URL: http://www.infineon.com/dgdl/SKW30N60HS_Rev2_2G.pdf?folderId=db3a304412b407950112b408e8c90004&fileId=db3a304412b407950112b42862d43de6
footprint INF-PG-TO-247-3 (FM, 3-Leads, Body 15.865x5.03mm, Pitch 5.44mm)
pins: 1 G, 2 C, 3 E

## SKW15N60
designator Q?
Fast IGBT in NPT-Technology with Soft, Fast Recovery Anti-Parallel EmCon Diode, PG-TO-247-3, Tube, Green; Manufacturer: Infineon; PartNumber: SKW15N60; Green: TRUE; IC(max) @ 100 degC: 15 A; IC(max) @ 25 degC: 31 A; Switching Frequency: Fast IGBT 10-40 kHz; VCE (max): 600 V; VCE(sat) (typ): 2.3 V; DatasheetVersion: Rev. 2.3; PackageVersion: Rev. 03, 12/2007; PackageReference: PG-TO247-3; PackageDescription: 3-Pin Plastic (Green) Transistor Single Outline Package, 15.865 x 5.03 mm Body, 5.44 mm Pitch; Supplier 1: Mouser; Supplier Part Number 1: 726-SKW15N60; Supplier 2: Digi-Key; Supplier Part Number 2: SKW15N60-ND; Halogen-free: FALSE; Packing: Tube; Mounting Technology: Through Hole; ComponentLink1Description: Manufacturer URL; ComponentLink1URL: http://www.infineon.com/; ComponentLink2Description: Datasheet; ComponentLink2URL: http://www.infineon.com/dgdl/SKP_W15N60_Rev2_3G.pdf?folderId=db3a304412b407950112b408e8c90004&fileId=db3a304412b407950112b427e7ed3d13; ComponentLink3Description: Package Specification; ComponentLink3URL: http://www.infineon.com/dgdl/SKW30N60HS_Rev2_2G.pdf?folderId=db3a304412b407950112b408e8c90004&fileId=db3a304412b407950112b42862d43de6
footprint INF-PG-TO-247-3 (FM, 3-Leads, Body 15.865x5.03mm, Pitch 5.44mm)
pins: 1 G, 2 C, 3 E

## SKW15N120
designator Q?
Fast IGBT in NPT-Technology with Soft, Fast Recovery Anti-Parallel EmCon Diode, PG-TO-247-3, Tube, Green; Manufacturer: Infineon; PartNumber: SKW15N120; Green: TRUE; IC(max) @ 100 degC: 15 A; IC(max) @ 25 degC: 30 A; Switching Frequency: Fast IGBT 10-40 kHz; VCE (max): 1,200 V; VCE(sat) (typ): 3.7 V; DatasheetVersion: Rev. 2.2; PackageVersion: Rev. 03, 12/2007; PackageReference: PG-TO247-3; PackageDescription: 3-Pin Plastic (Green) Transistor Single Outline Package, 15.865 x 5.03 mm Body, 5.44 mm Pitch; Supplier 1: Mouser; Supplier Part Number 1: 726-SKW15N120; Supplier 2: Digi-Key; Supplier Part Number 2: SKW15N120-ND; Halogen-free: FALSE; Packing: Tube; Mounting Technology: Through Hole; ComponentLink1Description: Manufacturer URL; ComponentLink1URL: http://www.infineon.com/; ComponentLink2Description: Datasheet; ComponentLink2URL: http://www.infineon.com/dgdl/SKW15N120_Rev2_2G.pdf?folderId=db3a304412b407950112b408e8c90004&fileId=db3a304412b407950112b427f9883d2e; ComponentLink3Description: Package Specification; ComponentLink3URL: http://www.infineon.com/dgdl/SKW30N60HS_Rev2_2G.pdf?folderId=db3a304412b407950112b408e8c90004&fileId=db3a304412b407950112b42862d43de6
footprint INF-PG-TO-247-3 (FM, 3-Leads, Body 15.865x5.03mm, Pitch 5.44mm)
pins: 1 G, 2 C, 3 E

## SKW20N60
designator Q?
Fast IGBT in NPT-Technology with Soft, Fast Recovery Anti-Parallel EmCon Diode, PG-TO-247-3, Tube, Green; Manufacturer: Infineon; PartNumber: SKW20N60; Green: TRUE; IC(max) @ 100 degC: 20 A; IC(max) @ 25 degC: 40 A; Switching Frequency: Fast IGBT 10-40 kHz; VCE (max): 600 V; VCE(sat) (typ): 2.4 V; DatasheetVersion: Rev. 2.2; PackageVersion: Rev. 03, 12/2007; PackageReference: PG-TO247-3; PackageDescription: 3-Pin Plastic (Green) Transistor Single Outline Package, 15.865 x 5.03 mm Body, 5.44 mm Pitch; Supplier 1: Mouser; Supplier Part Number 1: 726-SKW20N60; Supplier 2: Newark; Supplier Part Number 2: 24M7481; Supplier 3: Farnell; Supplier Part Number 3: 1156456; Supplier 4: Digi-Key; Supplier Part Number 4: SKW20N60-ND; Halogen-free: FALSE; Packing: Tube; Mounting Technology: Through Hole; ComponentLink1Description: Manufacturer URL; ComponentLink1URL: http://www.infineon.com/; ComponentLink2Description: Datasheet; ComponentLink2URL: http://www.infineon.com/dgdl/SKW20N60_Rev2_2G.pdf?folderId=db3a304412b407950112b408e8c90004&fileId=db3a304412b407950112b427eb2b3d1a; ComponentLink3Description: Package Specification; ComponentLink3URL: http://www.infineon.com/dgdl/SKW30N60HS_Rev2_2G.pdf?folderId=db3a304412b407950112b408e8c90004&fileId=db3a304412b407950112b42862d43de6
footprint INF-PG-TO-247-3 (FM, 3-Leads, Body 15.865x5.03mm, Pitch 5.44mm)
pins: 1 G, 2 C, 3 E

## SKW20N60HS
designator Q?
High Speed IGBT in NPT-Technology, PG-TO-247-3, Tube, Green; Manufacturer: Infineon; PartNumber: SKW20N60HS; Green: TRUE; IC(max) @ 100 degC: 20 A; IC(max) @ 25 degC: 36 A; Switching Frequency: HighSpeed 30-100 kHz; VCE (max): 600 V; VCE(sat) (typ): 3.5 V; DatasheetVersion: Rev. 2.3; PackageVersion: Rev. 03, 12/2007; PackageReference: PG-TO247-3; PackageDescription: 3-Pin Plastic (Green) Transistor Single Outline Package, 15.865 x 5.03 mm Body, 5.44 mm Pitch; Supplier 1: Mouser; Supplier Part Number 1: 726-SKW20N60HS; Supplier 2: Digi-Key; Supplier Part Number 2: SKW20N60HS-ND; Halogen-free: FALSE; Packing: Tube; Mounting Technology: Through Hole; ComponentLink1Description: Manufacturer URL; ComponentLink1URL: http://www.infineon.com/; ComponentLink2Description: Datasheet; ComponentLink2URL: http://www.infineon.com/dgdl/SKW20N60HS_Rev2_3G.pdf?folderId=db3a304412b407950112b408e8c90004&fileId=db3a304412b407950112b4285fc63de2; ComponentLink3Description: Package Specification; ComponentLink3URL: http://www.infineon.com/dgdl/SKW30N60HS_Rev2_2G.pdf?folderId=db3a304412b407950112b408e8c90004&fileId=db3a304412b407950112b42862d43de6
footprint INF-PG-TO-247-3 (FM, 3-Leads, Body 15.865x5.03mm, Pitch 5.44mm)
pins: 1 G, 2 C, 3 E

## SKW25N120
designator Q?
Fast IGBT in NPT-Technology with Soft, Fast Recovery Anti-Parallel EmCon Diode, PG-TO-247-3, Tube, Green; Manufacturer: Infineon; PartNumber: SKW25N120; Green: TRUE; IC(max) @ 100 degC: 25 A; IC(max) @ 25 degC: 46 A; Switching Frequency: Fast IGBT 10-40 kHz; VCE (max): 1,200 V; VCE(sat) (typ): 3.7 V; DatasheetVersion: Rev. 2.2; PackageVersion: Rev. 03, 12/2007; PackageReference: PG-TO247-3; PackageDescription: 3-Pin Plastic (Green) Transistor Single Outline Package, 15.865 x 5.03 mm Body, 5.44 mm Pitch; Supplier 1: Mouser; Supplier Part Number 1: 726-SKW25N120; Supplier 2: Newark; Supplier Part Number 2: 34M8497; Supplier 3: Farnell; Supplier Part Number 3: 1056536; Supplier 4: Digi-Key; Supplier Part Number 4: SKW25N120-ND; Halogen-free: FALSE; Packing: Tube; Mounting Technology: Through Hole; ComponentLink1Description: Manufacturer URL; ComponentLink1URL: http://www.infineon.com/; ComponentLink2Description: Datasheet; ComponentLink2URL: http://www.infineon.com/dgdl/SKW25N120_Rev2_2G.pdf?folderId=db3a304412b407950112b408e8c90004&fileId=db3a304412b407950112b427fc7f3d32; ComponentLink3Description: Package Specification; ComponentLink3URL: http://www.infineon.com/dgdl/SKW30N60HS_Rev2_2G.pdf?folderId=db3a304412b407950112b408e8c90004&fileId=db3a304412b407950112b42862d43de6
footprint INF-PG-TO-247-3 (FM, 3-Leads, Body 15.865x5.03mm, Pitch 5.44mm)
pins: 1 G, 2 C, 3 E